# EAGLE library part MICROMAG (library PocketCube)
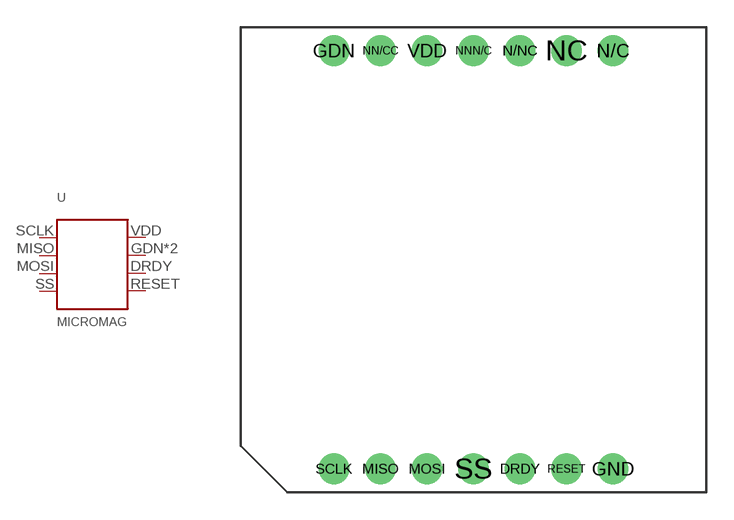
[diagram p7: symbol with the pads of MICROMAG; footprint MICROMAG]

Designator prefix -

## MICROMAG  [MICROMAG]
DRDY  DRDY
GDN  GND
GND  GND
MISO  MISO
MOSI  MOSI
RESET  RESET
SCLK  SCLK
SS  SS
VDD  VCC

## Footprint MICROMAG (pad centres in mm)
drill 1 pad 1.676: DRDY 15.24,1.27; GDN 5.08,24.13; GND 20.32,1.27; MISO 7.62,1.27; MOSI 10.16,1.27; N/C 20.32,24.13; N/NC 15.24,24.13; NC 17.78,24.13; NN/CC 7.62,24.13; NNN/C 12.7,24.13; RESET 17.78,1.27; SCLK 5.08,1.27; SS 12.7,1.27; VDD 10.16,24.13